# EAGLE library part LAYOUT-LEMO-12PIN (library launch-tower)
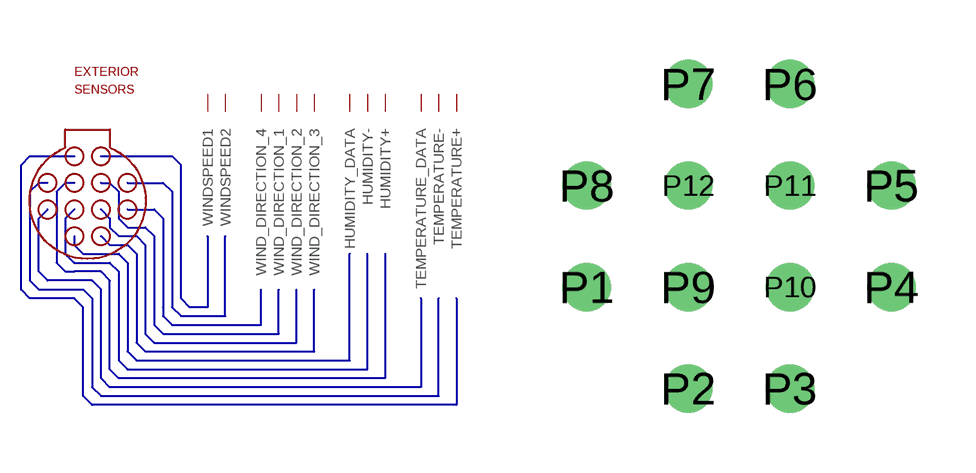
[diagram p9: symbol with the pads of LEMO-12; footprint LEMO-12]

Designator prefix -

## LAYOUT-LEMO-12PIN  [LEMO-12]
P1  TEMPERATURE+
P2  HUMIDITY_DATA
P3  WIND_DIRECTION_3
P4  WIND_DIRECTION_4
P5  WINDSPEED2
P6  WINDSPEED1
P7  TEMPERATURE_DATA
P8  TEMPERATURE-
P9  HUMIDITY-
P10  WIND_DIRECTION_2
P11  WIND_DIRECTION_1
P12  HUMIDITY+

## Footprint LEMO-12 (pad centres in mm)
drill 0.7: P1 -3.81,-1.27; P2 -1.27,-3.81; P3 1.27,-3.81; P4 3.81,-1.27; P5 3.81,1.27; P6 1.27,3.81; P7 -1.27,3.81; P8 -3.81,1.27; P9 -1.27,-1.27; P10 1.27,-1.27; P11 1.27,1.27; P12 -1.27,1.27